# Altium integrated library 118.IntLib: 1 symbol
Pins are listed as number, name and electrical type; pins without a type are passive.

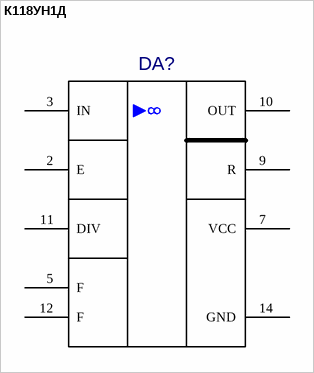
[diagram p0: symbol К118УН1Д]

## К118УН1Д
designator DA?  (value not drawn)
Value: *
footprint 201.14-1
pins: 1 hidden, 2 E, 3 IN, 4 hidden, 5 F, 6 hidden, 7 VCC, 8 hidden, 9 R, 10 OUT, 11 DIV, 12 F, 13 hidden, 14 GND